# Altium footprint library STM32VET6.PcbLib: 35 footprints (part 1 of 3)
Each footprint in its own frame and in the unit in brackets; x right, y up, seen from the top. Pads: shape width x height; smd on the part's side, far side on the other; paste and mask are expansions set on the pad; w line width, h text height; cw(c..) or ccw(c..) is an arc to the next point about the centre after c.
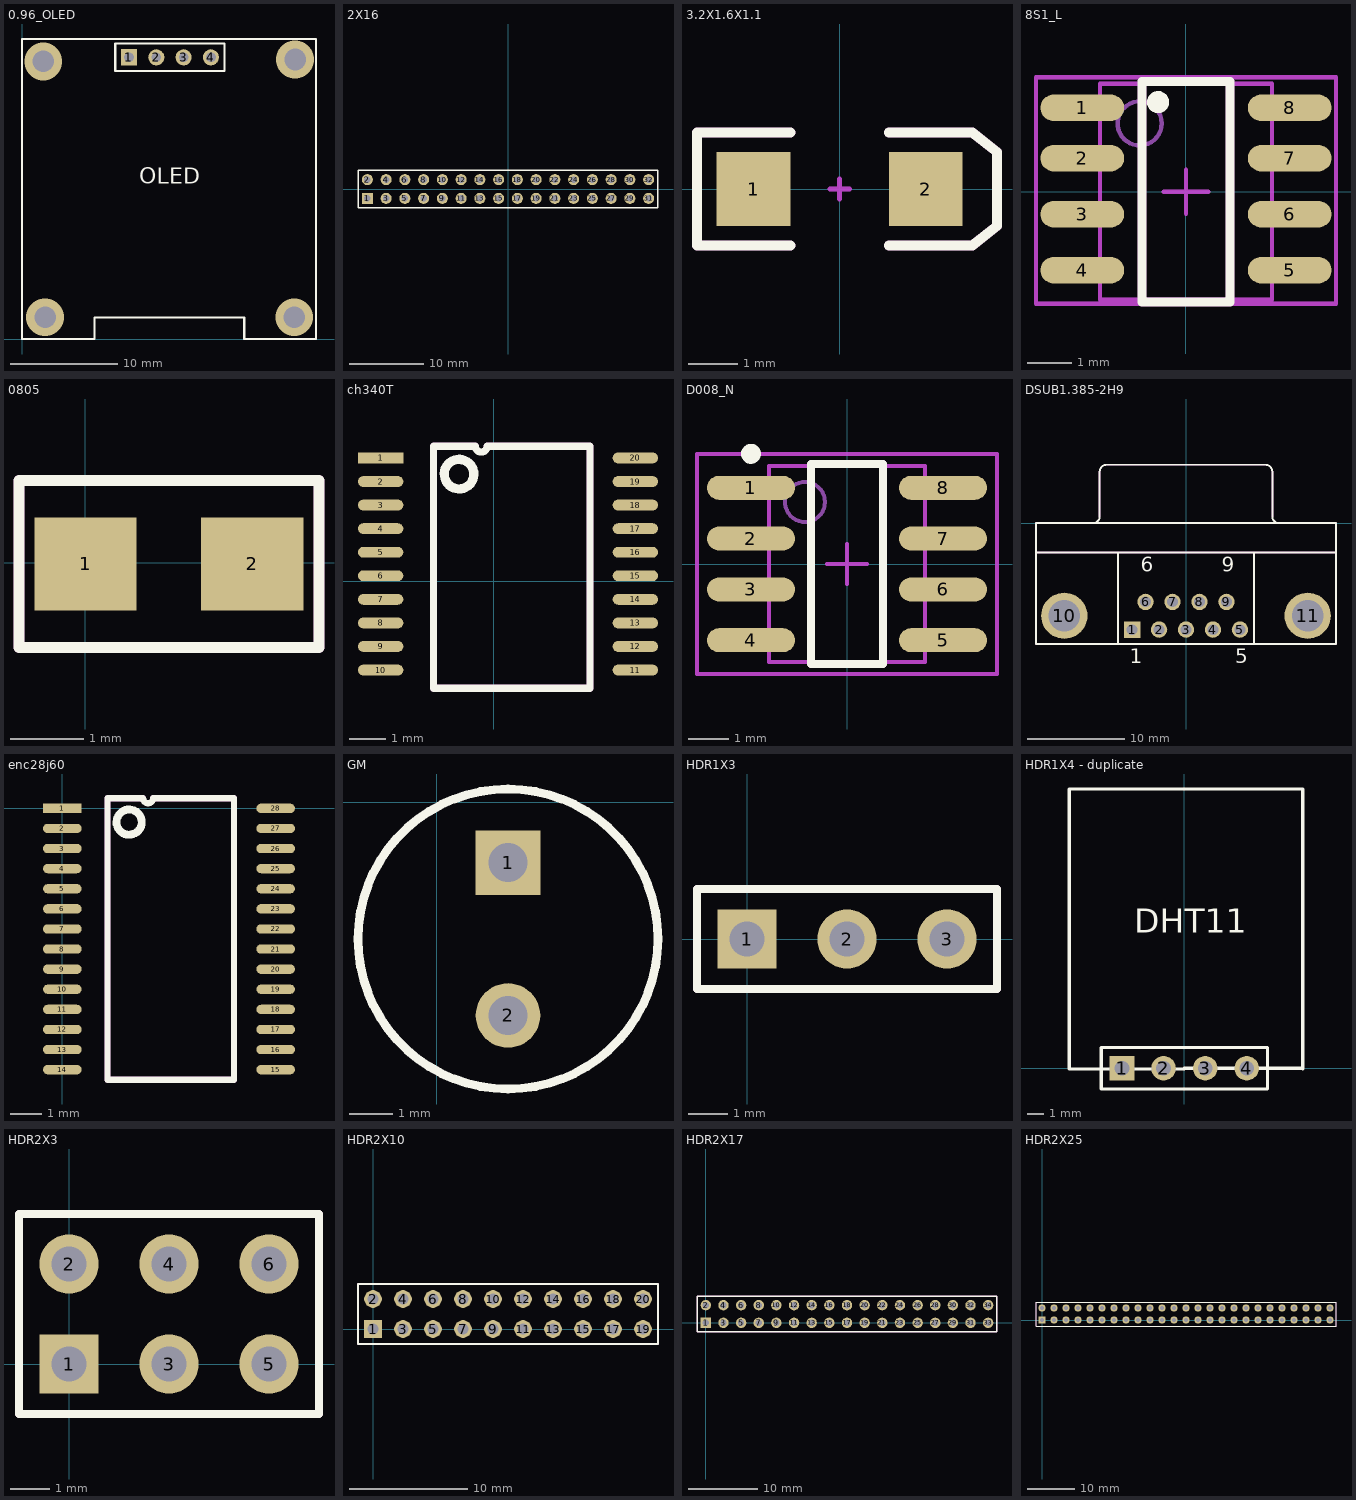
[diagram p0: the footprints below, top view; thin cyan lines are the x and y axes]

## 0.96_OLED [mm]
pads (4):
  rect 1.5x1.5 hole 0.9: 1(9.931,26.187)
  round 1.5 hole 0.9: 2(12.471,26.187) 3(15.011,26.187) 4(17.551,26.187)
via 2.134,2.032 diameter 3.505 hole 2.007
via 25.298,2.032 diameter 3.505 hole 2.007
via 25.375,25.984 diameter 3.505 hole 2.007
via 1.956,25.806 diameter 3.505 hole 2.007
Top Overlay:
  lines w0.2: 8.661,24.917 18.821,24.917 18.821,27.457 8.661,27.457 8.661,24.917
  lines w0.203: 0,27.813 0,0 6.655,0 ; 0,27.889 27.305,27.889 ; 6.731,0 6.731,2.007 20.65,2.007 20.65,0 27.305,0 27.305,27.813
  text "OLED" at 10.897,13.919 h2.54

## 2X16 [mm]
pads (32):
  rect 1.5x1.5 hole 0.9: 1(-19.05,-1.27)
  round 1.5 hole 0.9: 2(-19.05,1.27) 3(-16.51,-1.27) 4(-16.51,1.27) 5(-13.97,-1.27) 6(-13.97,1.27) 7(-11.43,-1.27) 8(-11.43,1.27) 9(-8.89,-1.27) 10(-8.89,1.27) 11(-6.35,-1.27) 12(-6.35,1.27) 13(-3.81,-1.27) 14(-3.81,1.27) 15(-1.27,-1.27) 16(-1.27,1.27) 17(1.27,-1.27) 18(1.27,1.27) 19(3.81,-1.27) 20(3.81,1.27) 21(6.35,-1.27) 22(6.35,1.27) 23(8.89,-1.27) 24(8.89,1.27) 25(11.43,-1.27) 26(11.43,1.27) 27(13.97,-1.27) 28(13.97,1.27) 29(16.51,-1.27) 30(16.51,1.27) 31(19.05,-1.27) 32(19.05,1.27)
Top Overlay:
  lines w0.2: -20.32,-2.54 -20.32,2.54 20.32,2.54 20.32,-2.54 -20.32,-2.54

## 3.2X1.6X1.1 [mm] "SMT LED; 2 Flat Leads"
height 1.2
pads (2):
  rect 1.5x1.5 smd: 1(-1.75,0) 2(1.75,0)
Top Overlay keep-out:
  lines w0.2: -1,-1.15 -2.9,-1.15 -2.9,1.15 -1,1.15 ; 1,-1.15 2.7,-1.15 3.2,-0.75 3.2,0.75 2.7,1.15 1,1.15
Mechanical 1 keep-out:
  lines w0.1: -0.2,0 0.2,0 ; 0,-0.2 0,0.2

## 8S1_L [mm] "8-Pin Small Outline Integrated Circuit 1.27 mm Pitch, IPC High Density"
height 1.73
pads (8):
  oval 1.9x0.6 smd: 1(-2.35,1.905) 2(-2.35,0.762) 3(-2.35,-0.508) 4(-2.35,-1.778) 5(2.35,-1.778) 6(2.35,-0.508) 7(2.35,0.762) 8(2.35,1.905)
Top Overlay:
  circle w0.25: c-0.633,2.032 r0.125
Top Overlay keep-out:
  lines w0.2: -1,-2.5 -1,2.5 1,2.5 1,-2.5 -1,-2.5
Mechanical 13:
  circle w0.1: c-1.05,1.55 r0.5
Mechanical 13 keep-out:
  lines w0.1: -1.95,-2.45 -1.95,2.45 1.95,2.45 1.95,-2.45 -1.95,-2.45
Mechanical 15 keep-out:
  lines w0.1: -0.5,0 0.5,0 ; 0,-0.5 0,0.5 ; -3.4,-2.54 -3.4,2.6 3.4,2.6 3.4,-2.54 -3.4,-2.54
3D body: height 1.73, standoff 0, extent -1.95,-2.45 1.95,2.45

## 0805 [mm]
pads (2):
  rect 1.4x1.27 smd: 1(0.006,-0.016) 2(2.292,-0.016)
Top Overlay keep-out:
  lines w0.152: -0.907,-1.159 3.208,-1.159 3.208,1.127 -0.907,1.127 -0.907,-1.159

## ch340T [mm]
pads (20):
  rect 1.25x0.3 smd: 1(-3.125,3.4)
  oval 1.25x0.3 smd: 2(-3.125,2.75) 3(-3.125,2.1) 4(-3.125,1.45) 5(-3.125,0.8) 6(-3.125,0.15) 7(-3.125,-0.5) 8(-3.125,-1.15) 9(-3.125,-1.8) 10(-3.125,-2.45) 11(3.9,-2.45) 12(3.9,-1.8) 13(3.9,-1.15) 14(3.9,-0.5) 15(3.9,0.15) 16(3.9,0.8) 17(3.9,1.45) 18(3.9,2.1) 19(3.9,2.75) 20(3.9,3.4)
Top Overlay:
  lines w0.2: -0.513,3.725 ccw(c-0.35,3.725) -0.188,3.725
  lines w0.254: -1.367,2.896 cw(c-0.963,2.954) -1.35,2.825
Top Overlay keep-out:
  lines w0.2: -0.513,3.725 -1.665,3.725 -1.665,-2.95 2.65,-2.95 2.65,3.725 -0.188,3.725

## D008_N [mm] "8-Pin Small Outline Integrated Circuit 1.27 mm Pitch, IPC Medium Density"
height 1.75
pads (8):
  oval 2.2x0.6 smd: 1(-2.4,1.905) 2(-2.4,0.635) 3(-2.4,-0.635) 4(-2.4,-1.905) 5(2.4,-1.905) 6(2.4,-0.635) 7(2.4,0.635) 8(2.4,1.905)
Top Overlay:
  circle w0.25: c-2.4,2.755 r0.125
Top Overlay keep-out:
  lines w0.2: -0.9,-2.5 0.9,-2.5 0.9,2.5 -0.9,2.5 -0.9,-2.5
Mechanical 13:
  circle w0.1: c-1.05,1.55 r0.5
Mechanical 13 keep-out:
  lines w0.1: -1.95,-2.45 1.95,-2.45 1.95,2.45 -1.95,2.45 -1.95,-2.45
Mechanical 15 keep-out:
  lines w0.1: -0.5,0 0.5,0 ; 0,-0.5 0,0.5 ; -3.75,-2.75 3.75,-2.75 3.75,2.75 -3.75,2.75 -3.75,-2.75
3D body: height 1.75, standoff 0, extent -1.95,-2.45 1.95,2.45

## DSUB1.385-2H9 [mm] "Connector; D Subminiature; 9 Position; Right Angle; Pitch 1.385 mm"
height 12.75
pads (11):
  rect 1.69x1.69 hole 1.09: 1(-5.54,-10.92)
  round 1.69 hole 1.09: 2(-2.77,-10.92) 3(0,-10.92) 4(2.77,-10.92) 5(5.54,-10.92) 6(-4.155,-8.08) 7(-1.385,-8.08) 8(1.385,-8.08) 9(4.155,-8.08)
  round 4.76 hole 3.26: 10(-12.495,-9.5) 11(12.495,-9.5)
Top Overlay:
  lines w0.2: -9.56,0.005 ccw(c-9.56,0.7) -8.865,0.7 ; -8.86,5.305 cw(c-8.165,5.305) -8.165,6 ; 8.165,6 cw(c8.165,5.305) 8.86,5.305 ; 8.865,0.7 ccw(c9.56,0.7) 9.56,0.005
  text "6" at -4.655,-4.975 h1.5
  text "9" at 3.655,-4.975 h1.5
  text "5" at 5.04,-14.375 h1.5
  text "1" at -5.79,-14.375 h1.5
Top Overlay keep-out:
  lines w0.2: -15.4,-3 15.4,-3 ; -8.865,0.7 -8.865,5.3 ; -8.165,6 8.165,6 ; -7,-12.4 -7,-3 ; 7,-12.4 7,-3 ; 8.865,0.7 8.865,5.3 ; -15.4,-12.4 15.4,-12.4 15.4,0 -15.4,0 -15.4,-12.4

## enc28j60 [mm]
pads (28):
  rect 1.25x0.3 smd: 1(0,0)
  oval 1.25x0.3 smd: 2(0,-0.65) 3(0,-1.3) 4(0,-1.95) 5(0,-2.6) 6(0,-3.25) 7(0,-3.9) 8(0,-4.55) 9(0,-5.2) 10(0,-5.85) 11(0,-6.5) 12(0,-7.15) 13(0,-7.8) 14(0,-8.45) 15(6.9,-8.45) 16(6.9,-7.8) 17(6.9,-7.15) 18(6.9,-6.5) 19(6.9,-5.85) 20(6.9,-5.2) 21(6.9,-4.55) 22(6.9,-3.9) 23(6.9,-3.25) 24(6.9,-2.6) 25(6.9,-1.95) 26(6.9,-1.3) 27(6.9,-0.65) 28(6.9,0)
Top Overlay:
  lines w0.2: 2.612,0.325 ccw(c2.775,0.325) 2.937,0.325
  lines w0.254: 1.758,-0.504 cw(c2.162,-0.446) 1.775,-0.575
Top Overlay keep-out:
  lines w0.2: 2.612,0.325 1.46,0.325 1.46,-8.775 5.55,-8.775 5.55,0.325 2.937,0.325

## GM [mm]
pads (2):
  rect 1.5x1.5 hole 0.9: 1(1.651,-1.397)
  round 1.5 hole 0.9: 2(1.651,-4.953)
Top Overlay:
  circle w0.203: c1.651,-3.175 r3.487

## HDR1X3 [mm] "Connector; Header; 3 Position"
pads (3):
  rect 1.5x1.5 hole 0.9: 1(0,0)
  round 1.5 hole 0.9: 2(2.54,0) 3(5.08,0)
Top Overlay keep-out:
  lines w0.2: -1.27,-1.27 6.35,-1.27 6.35,1.27 -1.27,1.27 -1.27,-1.27

## HDR1X4 - duplicate [mm] "Connector; Header; 4 Position"
pads (4):
  rect 1.5x1.5 hole 0.9: 1(-3.81,0)
  round 1.5 hole 0.9: 2(-1.27,0) 3(1.27,0) 4(3.81,0)
Top Overlay:
  lines w0.2: -5.08,-1.27 -5.08,1.27 5.08,1.27 5.08,-1.27 -5.08,-1.27
  lines w0.203: 0,-0.051 -7.036,-0.051 -7.036,17.069 7.188,17.069 ; 0,0 7.112,0 ; 7.239,-0.051 7.239,17.069
  text "DHT11" at -3.073,7.798 h2.54

## HDR2X3 [mm] "Connector; Header; 3x2 Position"
pads (6):
  rect 1.5x1.5 hole 0.9: 1(0,0)
  round 1.5 hole 0.9: 2(0,2.54) 3(2.54,0) 4(2.54,2.54) 5(5.08,0) 6(5.08,2.54)
Top Overlay keep-out:
  lines w0.2: 1.482,-1.27 6.35,-1.27 ; 6.35,-1.27 -1.27,-1.27 -1.27,3.81 6.35,3.81 6.35,-1.27

## HDR2X10 [mm] "Connector; Header; 10x2 Position"
pads (20):
  rect 1.5x1.5 hole 0.9: 1(0,0)
  round 1.5 hole 0.9: 2(0,2.54) 3(2.54,0) 4(2.54,2.54) 5(5.08,0) 6(5.08,2.54) 7(7.62,0) 8(7.62,2.54) 9(10.16,0) 10(10.16,2.54) 11(12.7,0) 12(12.7,2.54) 13(15.24,0) 14(15.24,2.54) 15(17.78,0) 16(17.78,2.54) 17(20.32,0) 18(20.32,2.54) 19(22.86,0) 20(22.86,2.54)
Top Overlay keep-out:
  lines w0.2: -1.27,-1.27 -1.27,3.81 0.635,3.81 24.13,3.81 24.13,-1.27 0.635,-1.27 -1.27,-1.27

## HDR2X17 [mm] "Connector; Header; 17x2 Position"
pads (34):
  rect 1.5x1.5 hole 0.9: 1(0,0)
  round 1.5 hole 0.9: 2(0,2.54) 3(2.54,0) 4(2.54,2.54) 5(5.08,0) 6(5.08,2.54) 7(7.62,0) 8(7.62,2.54) 9(10.16,0) 10(10.16,2.54) 11(12.7,0) 12(12.7,2.54) 13(15.24,0) 14(15.24,2.54) 15(17.78,0) 16(17.78,2.54) 17(20.32,0) 18(20.32,2.54) 19(22.86,0) 20(22.86,2.54) 21(25.4,0) 22(25.4,2.54) 23(27.94,0) 24(27.94,2.54) 25(30.48,0) 26(30.48,2.54) 27(33.02,0) 28(33.02,2.54) 29(35.56,0) 30(35.56,2.54) 31(38.1,0) 32(38.1,2.54) 33(40.64,0) 34(40.64,2.54)
Top Overlay keep-out:
  lines w0.2: -1.27,-1.27 41.91,-1.27 41.91,3.81 -1.27,3.81 -1.27,-1.27

## HDR2X25 [mm] "Connector; Header; 25x2 Position"
pads (50):
  rect 1.5x1.5 hole 0.9: 1(0,0)
  round 1.5 hole 0.9: 2(0,2.54) 3(2.54,0) 4(2.54,2.54) 5(5.08,0) 6(5.08,2.54) 7(7.62,0) 8(7.62,2.54) 9(10.16,0) 10(10.16,2.54) 11(12.7,0) 12(12.7,2.54) 13(15.24,0) 14(15.24,2.54) 15(17.78,0) 16(17.78,2.54) 17(20.32,0) 18(20.32,2.54) 19(22.86,0) 20(22.86,2.54) 21(25.4,0) 22(25.4,2.54) 23(27.94,0) 24(27.94,2.54) 25(30.48,0) 26(30.48,2.54) 27(33.02,0) 28(33.02,2.54) 29(35.56,0) 30(35.56,2.54) 31(38.1,0) 32(38.1,2.54) 33(40.64,0) 34(40.64,2.54) 35(43.18,0) 36(43.18,2.54) 37(45.72,0) 38(45.72,2.54) 39(48.26,0) 40(48.26,2.54) 41(50.8,0) 42(50.8,2.54) 43(53.34,0) 44(53.34,2.54) 45(55.88,0) 46(55.88,2.54) 47(58.42,0) 48(58.42,2.54) 49(60.96,0) 50(60.96,2.54)
Top Overlay keep-out:
  lines w0.2: -1.27,-1.27 62.23,-1.27 62.23,3.81 -1.27,3.81 -1.27,-1.27